# Altium schematic symbol library SN74LVC32ARGYR.SchLib: 1 symbol
Pins are listed as number, name and electrical type; pins without a type are passive.

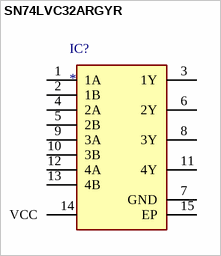
[diagram p0: symbol SN74LVC32ARGYR]

## SN74LVC32ARGYR
designator IC?
Integrated Circuit; Manufacturer_Name: Texas Instruments; Manufacturer_Part_Number: SN74LVC32ARGYR; Description: Quadruple 2-Input Positive-OR Gate; Datasheet Link: http://www.ti.com/lit/gpn/sn74lvc32a; Height: 1mm; Mouser Part Number: 595-SN74LVC32ARGYR; Mouser Price/Stock: https://www.mouser.co.uk/ProductDetail/Texas-Instruments/SN74LVC32ARGYR/?qs=NLW4NjXEBS7TV%252BVP49qGJA%3D%3D; Arrow Part Number: SN74LVC32ARGYR; Arrow Price/Stock: https://www.arrow.com/en/products/sn74lvc32argyr/texas-instruments
footprint SN74LVC32ARGYR
pins: 1 1A, 2 1B, 3 1Y, 4 2A, 5 2B, 6 2Y, 7 GND, 8 3Y, 9 3A, 10 3B, 11 4Y, 12 4A, 13 4B, 14 VCC, 15 EP